# Altium schematic symbol library RAMBo.SCHLIB: 58 symbols
Pins are listed as number, name and electrical type; pins without a type are passive.

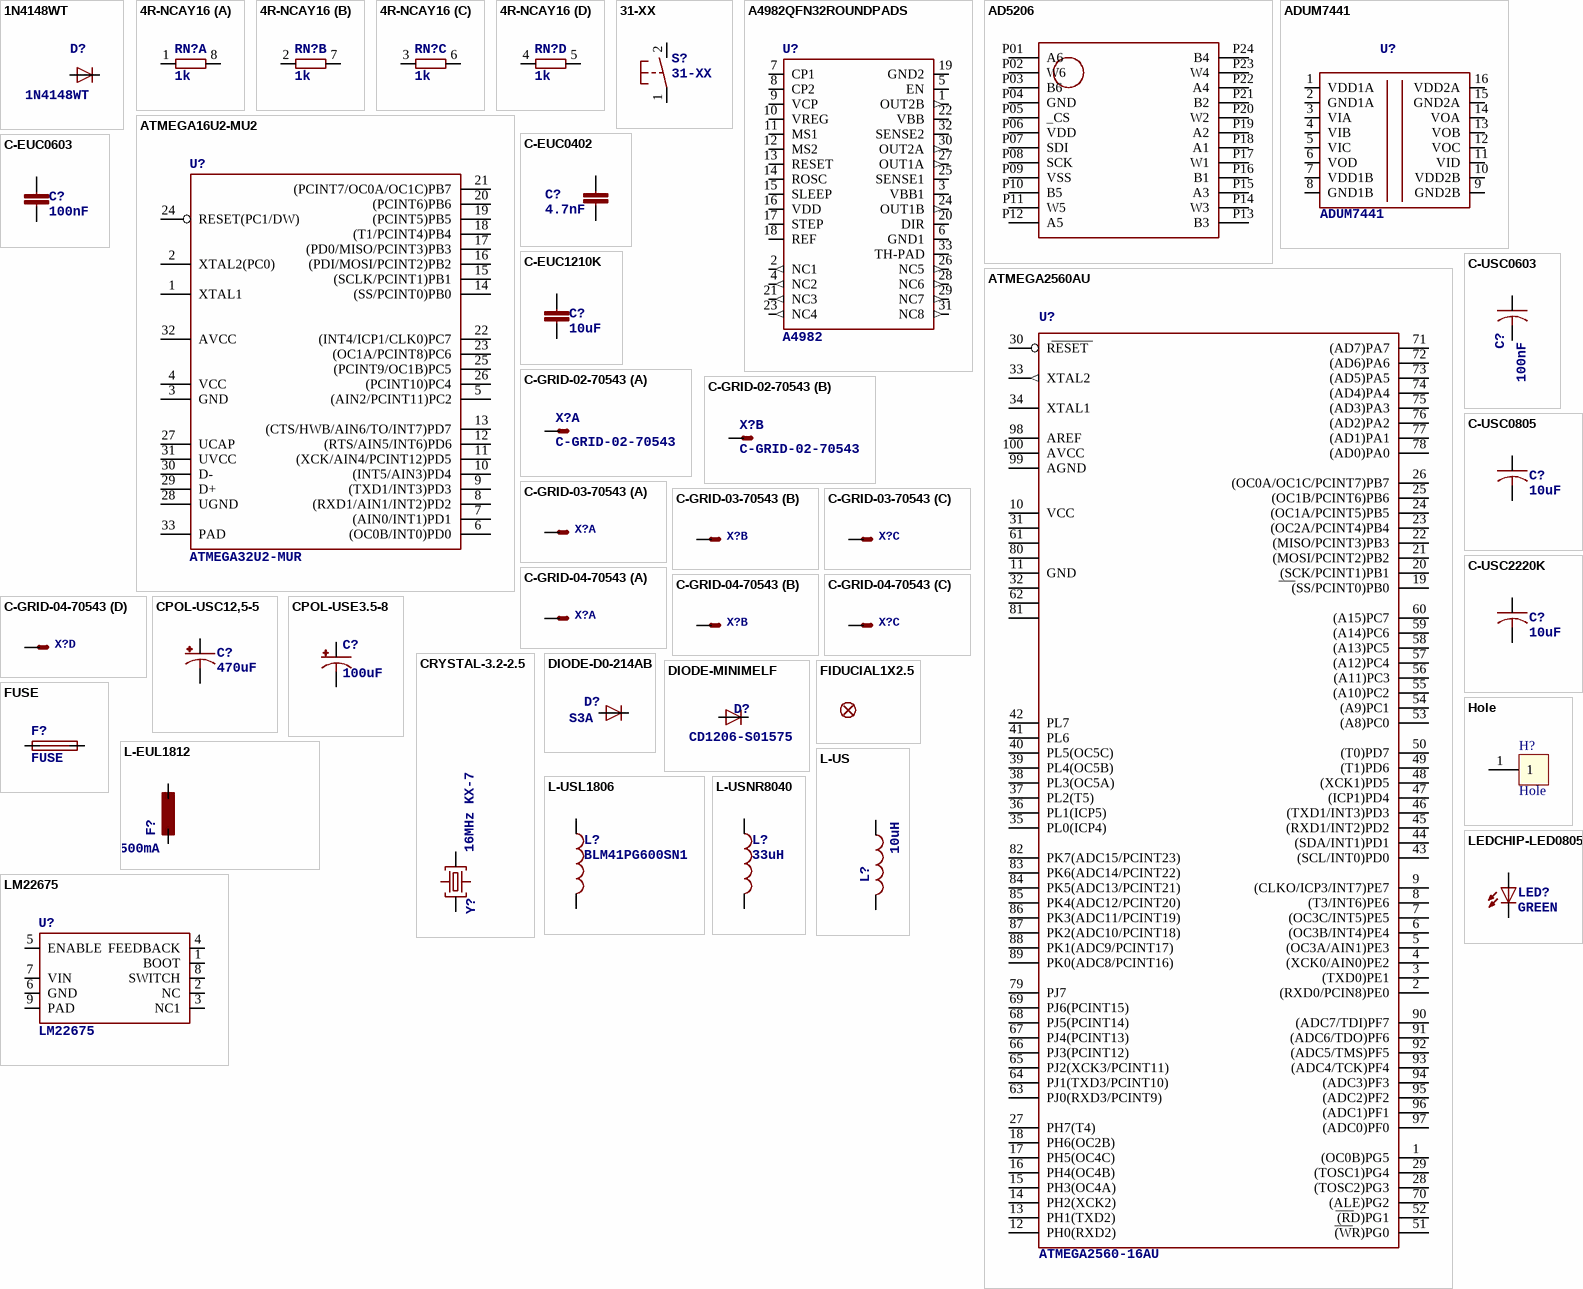
[diagram p0: symbols 1N4148WT to LM22675]

## 1N4148WT
designator D?
DIODE   high speed (Philips)
footprint SOD523
pins: A, C

## 4R-NCAY16
designator RN?, comment 1k
Array Chip Resistor   Source: RS Component / Phycomp; OC_FARNELL: unknown; OC_NEWARK: unknown
footprint CAY16
part A pins: 1, 8 2
part B pins: 2 1, 7 2
part C pins: 3 1, 6 2
part D pins: 4 1, 5 2

## 31-XX
designator S?
OMRON SWITCHNow with beefier pads!
footprint B3F-31XX
pins: 1 P, 2 S

## A4982QFN32ROUNDPADS
designator U?, comment A4982
footprint QFN32TROUND
pins: 1 OUT2B (out), 2 NC1 (out), 3 VBB1 (power), 4 NC2 (out), 5 EN, 6 GND1 (power), 7 CP1, 8 CP2, 9 VCP, 10 VREG, 11 MS1, 12 MS2, 13 RESET, 14 ROSC, 15 SLEEP, 16 VDD (power), 17 STEP, 18 REF, 19 GND2 (power), 20 DIR, 21 NC3 (out), 22 VBB (power), 23 NC4 (out), 24 OUT1B (out), 25 SENSE1, 26 NC5 (out), 27 OUT1A (out), 28 NC6 (out), 29 NC7 (out), 30 OUT2A (out), 31 NC8 (out), 32 SENSE2, 33 TH-PAD (power)

## AD5206
designator U?  (value not drawn)
footprint TSSOP24
pins: P01 A6, P02 W6, P03 B6, P04 GND, P05 _CS, P06 VDD, P07 SDI, P08 SCK, P09 VSS, P10 B5, P11 W5, P12 A5, P13 B3, P14 W3, P15 A3, P16 B1, P17 W1, P18 A1, P19 A2, P20 W2, P21 B2, P22 A4, P23 W4, P24 B4

## ADUM7441
designator U?
footprint QSOP16
pins: 1 VDD1A, 2 GND1A, 3 VIA, 4 VIB, 5 VIC, 6 VOD, 7 VDD1B, 8 GND1B, 9 GND2B, 10 VDD2B, 11 VID, 12 VOC, 13 VOB, 14 VOA, 15 GND2A, 16 VDD2A

## ATMEGA16U2-MU2
designator U?, comment ATMEGA32U2-MUR
footprint QFN32TROUND
pins: 1 XTAL1, 2 XTAL2(PC0), 3 GND (power), 4 VCC (power), 5 (AIN2/PCINT11)PC2, 6 (OC0B/INT0)PD0, 7 (AIN0/INT1)PD1, 8 (RXD1/AIN1/INT2)PD2, 9 (TXD1/INT3)PD3, 10 (INT5/AIN3)PD4, 11 (XCK/AIN4/PCINT12)PD5, 12 (RTS/AIN5/INT6)PD6, 13 (CTS/HWB/AIN6/TO/INT7)PD7, 14 (SS/PCINT0)PB0, 15 (SCLK/PCINT1)PB1, 16 (PDI/MOSI/PCINT2)PB2, 17 (PD0/MISO/PCINT3)PB3, 18 (T1/PCINT4)PB4, 19 (PCINT5)PB5, 20 (PCINT6)PB6, 21 (PCINT7/OC0A/OC1C)PB7, 22 (INT4/ICP1/CLK0)PC7, 23 (OC1A/PCINT8)PC6, 24 RESET(PC1/DW), 25 (PCINT9/OC1B)PC5, 26 (PCINT10)PC4, 27 UCAP, 28 UGND (power), 29 D+, 30 D-, 31 UVCC (power), 32 AVCC (power), 33 PAD (power)

## ATMEGA2560AU
designator U?, comment ATMEGA2560-16AU
MICROCONTROLLER   64/128/256 Kbytes FLASH   4 Kbytes EEPROM   8 Kbytes SRAM   86 General Purpose I/O pins   12-channels16-bit PWM   4 x Serial USARTs   16-channels 10-bit A/D
footprint TQFP100
pins: 1 (OC0B)PG5, 2 (RXD0/PCIN8)PE0, 3 (TXD0)PE1, 4 (XCK0/AIN0)PE2, 5 (OC3A/AIN1)PE3, 6 (OC3B/INT4)PE4, 7 (OC3C/INT5)PE5, 8 (T3/INT6)PE6, 9 (CLKO/ICP3/INT7)PE7, 10 VCC (power), 11 GND (power), 12 PH0(RXD2), 13 PH1(TXD2), 14 PH2(XCK2), 15 PH3(OC4A), 16 PH4(OC4B), 17 PH5(OC4C), 18 PH6(OC2B), 19 (SS/PCINT0)PB0, 20 (SCK/PCINT1)PB1, 21 (MOSI/PCINT2)PB2, 22 (MISO/PCINT3)PB3, 23 (OC2A/PCINT4)PB4, 24 (OC1A/PCINT5)PB5, 25 (OC1B/PCINT6)PB6, 26 (OC0A/OC1C/PCINT7)PB7, 27 PH7(T4), 28 (TOSC2)PG3, 29 (TOSC1)PG4, 30 RESET, 31 VCC1 (power), 32 GND1 (power), 33 XTAL2 (out), 34 XTAL1, 35 PL0(ICP4), 36 PL1(ICP5), 37 PL2(T5), 38 PL3(OC5A), 39 PL4(OC5B), 40 PL5(OC5C), 41 PL6, 42 PL7, 43 (SCL/INT0)PD0, 44 (SDA/INT1)PD1, 45 (RXD1/INT2)PD2, 46 (TXD1/INT3)PD3, 47 (ICP1)PD4, 48 (XCK1)PD5, 49 (T1)PD6, 50 (T0)PD7, 51 (WR)PG0, 52 (RD)PG1, 53 (A8)PC0, 54 (A9)PC1, 55 (A10)PC2, 56 (A11)PC3, 57 (A12)PC4, 58 (A13)PC5, 59 (A14)PC6, 60 (A15)PC7, 61 VCC2 (power), 62 GND2 (power), 63 PJ0(RXD3/PCINT9), 64 PJ1(TXD3/PCINT10), 65 PJ2(XCK3/PCINT11), 66 PJ3(PCINT12), 67 PJ4(PCINT13), 68 PJ5(PCINT14), 69 PJ6(PCINT15), 70 (ALE)PG2, 71 (AD7)PA7, 72 (AD6)PA6, 73 (AD5)PA5, 74 (AD4)PA4, 75 (AD3)PA3, 76 (AD2)PA2, 77 (AD1)PA1, 78 (AD0)PA0, 79 PJ7, 80 VCC3 (power), 81 GND3 (power), 82 PK7(ADC15/PCINT23), 83 PK6(ADC14/PCINT22), 84 PK5(ADC13/PCINT21), 85 PK4(ADC12/PCINT20), 86 PK3(ADC11/PCINT19), 87 PK2(ADC10/PCINT18), 88 PK1(ADC9/PCINT17), 89 PK0(ADC8/PCINT16), 90 (ADC7/TDI)PF7, 91 (ADC6/TDO)PF6, 92 (ADC5/TMS)PF5, 93 (ADC4/TCK)PF4, 94 (ADC3)PF3, 95 (ADC2)PF2, 96 (ADC1)PF1, 97 (ADC0)PF0, 98 AREF, 99 AGND (power), 100 AVCC (power)

## C-EUC0402
designator C?, comment 4.7nF
CAPACITOR, European symbol
footprint C0402
pins: 1, 2

## C-EUC0603
designator C?, comment 100nF
CAPACITOR, European symbol
footprint C0603
pins: 1, 2

## C-EUC1210K
designator C?, comment 10uF
CAPACITOR, European symbol
footprint C1210K
pins: 1, 2

## C-GRID-02-70543
designator X?
CONNECTOR   wire to board 2.54 mm (0.100") pitch header; OC_FARNELL: unknown; OC_NEWARK: unknown
footprint 70543-02
part A pins: 2 S
part B pins: 1 S

## C-GRID-03-70543
designator X?  (value not drawn)
CONNECTOR   wire to board 2.54 mm (0.100") pitch header; OC_FARNELL: unknown; OC_NEWARK: unknown
footprint 70543-03
part A pins: 1 S
part B pins: 2 S
part C pins: 3 S

## C-GRID-04-70543
designator X?  (value not drawn)
CONNECTOR   wire to board 2.54 mm (0.100") pitch header; OC_FARNELL: unknown; OC_NEWARK: unknown
footprint 70543-04
part A pins: 1 S
part B pins: 2 S
part C pins: 3 S
part D pins: 4 S

## C-USC0603
designator C?, comment 100nF
CAPACITOR, American symbol
footprint C0603
pins: 1, 2

## C-USC0805
designator C?, comment 10uF
CAPACITOR, American symbol
footprint C0805
pins: 1, 2

## C-USC2220K
designator C?, comment 10uF
CAPACITOR, American symbol
footprint C2220K
pins: 1, 2

## CPOL-USC12,5-5
designator C?, comment 470uF
POLARIZED CAPACITOR, American symbol
footprint C12,5-5
pins: +, -

## CPOL-USE3.5-8
designator C?, comment 100uF
POLARIZED CAPACITOR, American symbol
footprint E3,5-8
pins: +, -

## CRYSTAL-3.2-2.5
designator Y?, comment 16MHz KX-7
footprint CRYSTAL-3.2-2.5
pins: 1 C1, 2 GND, 3 C2, 4 GND

## DIODE-D0-214AB
designator D?, comment S3A
DIODE
footprint DO-214AB
pins: A, C

## DIODE-MINIMELF
designator D?, comment CD1206-S01575
DIODE
footprint MINIMELF
pins: A, C

## FIDUCIAL1X2.5
designator FID?  (value not drawn)
Fiducial Alignment PointsVarious fiducial points for machine vision alignment.
footprint FIDUCIAL-1X2.5

## FUSE
designator F?
footprint FUSE-ATO-SMD
pins: P$1 1, P$2 2

## Hole
designator H?  (no BOM)
footprint Wave_hole_3x7-singleSided
pins: 1 (power)

## L-EUL1812
designator F?, comment MF-MSMF050-2 500mA
INDUCTOR, European symbol
footprint L1812
pins: 1, 2

## L-US
designator L?, comment 10uH
INDUCTOR, American symbol
footprint C0805
pins: 1, 2

## L-USL1806
designator L?, comment BLM41PG600SN1
INDUCTOR, American symbol
footprint L1806
pins: P$1 1, P$2 2

## L-USNR8040
designator L?, comment 33uH
INDUCTOR, American symbol
footprint NR8040
pins: P$1 1, P$2 2

## LEDCHIP-LED0805
designator LED?, comment GREEN
LED   OSRAM: - CHIPLED LG R971, LG N971, LY N971, LG Q971, LY Q971, LO R971, LY R971 LH N974, LH R974 LS Q976, LO Q976, LY Q976 LO Q996 - Hyper CHIPLED LW Q18S LB Q993, LB Q99A, LB R99A - SideLED LS A670, LO A670, LY A670, LG A670, LP A670 LB A673, LV A673, LT A673, LW A673 LH A674 LY A675 LS A676, LA A676, LO A676, LY A676, LW A676 LS A679, LY A679, LG A679 -  Hyper Micro SIDELED® LS Y876, LA Y876, LO Y876, LY Y876 LT Y87S - SmartLED LW L88C, LW L88S LB L89C, LB L89S, LG L890 LS L89K, LO L89K, LY L89K LS L896, LA L896, LO L896, LY L896 - TOPLED LS T670, LO T670, LY T670, LG T670, LP T670 LSG T670, LSP T670, LSY T670, LOP T670, LYG T670 LG T671, LOG T671, LSG T671 LB T673, LV T673, LT T673, LW T673 LH T674 LS T676, LA T676, LO T676, LY T676, LB T676, LH T676, LSB T676, LW T676 LB T67C, LV T67C, LT T67C, LS T67K, LO T67K, LY T67K, LW E67C LS E67B, LA E67B, LO E67B, LY E67B, LB E67C, LV E67C, LT E67C LW T67C LS T679, LY T679, LG T679 LS T770, LO T770, LY T770, LG T770, LP T770 LB T773, LV T773, LT T773, LW T773 LH T774 LS E675, LA E675, LY E675, LS T675 LS T776, LA T776, LO T776, LY T776, LB T776 LHGB T686 LT T68C, LB T68C - Hyper Mini TOPLED® LB M676 - Mini TOPLED Santana® LG M470 LS M47K, LO M47K, LY M47K    Source: http://www.osram.convergy.de   LUXEON: - LUMILED® LXK2-PW12-R00, LXK2-PW12-S00, LXK2-PW14-U00, LXK2-PW14-V00 LXK2-PM12-R00, LXK2-PM12-S00, LXK2-PM14-U00 LXK2-PE12-Q00, LXK2-PE12-R00, LXK2-PE12-S00, LXK2-PE14-T00, LXK2-PE14-U00 LXK2-PB12-K00, LXK2-PB12-L00, LXK2-PB12-M00, LXK2-PB14-N00, LXK2-PB14-P00, LXK2-PB14-Q00 LXK2-PR12-L00, LXK2-PR12-M00, LXK2-PR14-Q00, LXK2-PR14-R00 LXK2-PD12-Q00, LXK2-PD12-R00, LXK2-PD12-S00 LXK2-PH12-R00, LXK2-PH12-S00 LXK2-PL12-P00, LXK2-PL12-Q00, LXK2-PL12-R00    Source: www.luxeon.com   KINGBRIGHT:   KA-3528ASYC Source: www.kingbright.com
footprint CHIP-LED0805
pins: A, C

## LM22675
designator U?
footprint SOIC127P600X170-9N
pins: 1 BOOT, 2 NC, 3 NC1, 4 FEEDBACK, 5 ENABLE, 6 GND, 7 VIN (power), 8 SWITCH, 9 PAD

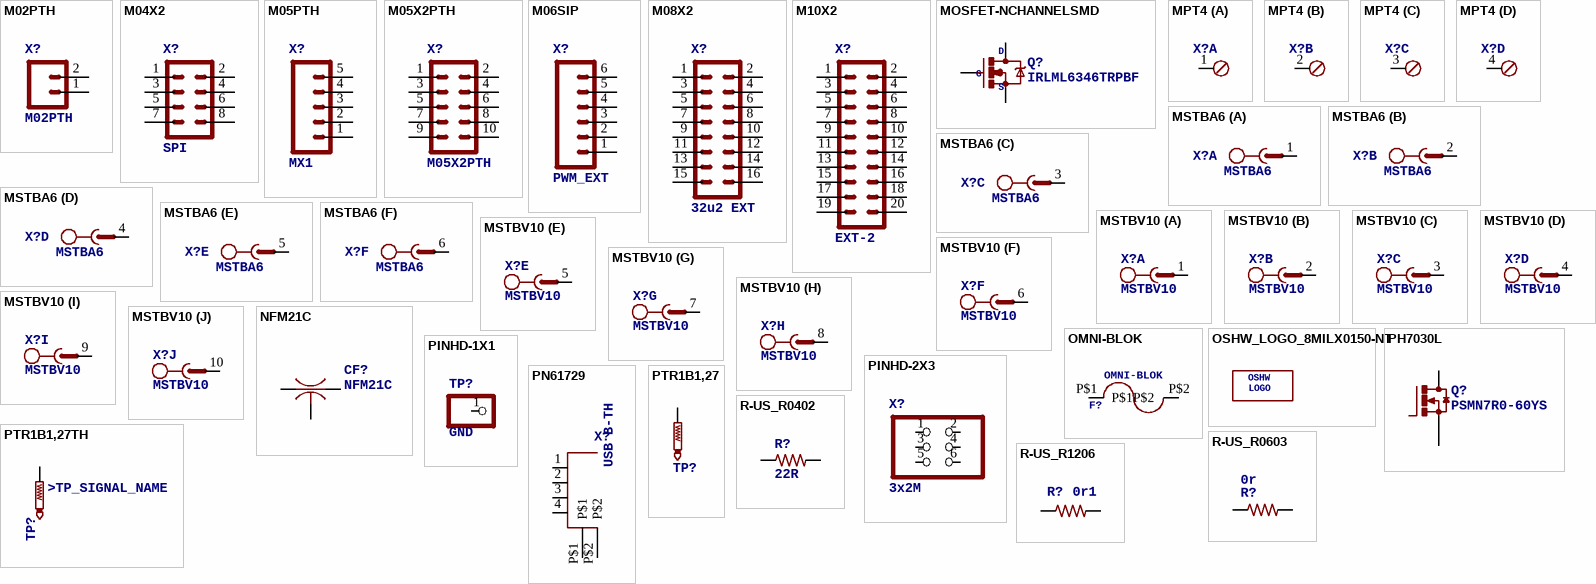
[diagram p1: symbols M02PTH to R-US_R1206]

## M02PTH
designator X?
Header 2Standard 2-pin 0.1" header. Use with straight break away headers (SKU : PRT-00116), right angle break away headers (PRT-00553), swiss pins (PRT-00743), machine pins (PRT-00117), and female headers (PRT-00115). Molex polarized connector foot print use with SKU : PRT-08233 with associated crimp pins and housings.
footprint 1X02
pins: 1, 2

## M04X2
designator X?, comment SPI
footprint 2X4
pins: 1, 2, 3, 4, 5, 6, 7, 8

## M05PTH
designator X?, comment MX1
Header 5Standard 5-pin 0.1" header. Use with straight break away headers (SKU : PRT-00116), right angle break away headers (PRT-00553), swiss pins (PRT-00743), machine pins (PRT-00117), and female headers (PRT-00115). Molex polarized connector foot print use with SKU : PRT-08230 with associated crimp pins and housings.
footprint 1X05
pins: 1, 2, 3, 4, 5

## M05X2PTH
designator X?
Header 5x2Standard 10-pin dual row 0.1" header. Commonly used with AVR-ISP. Use with Spark Fun Electronics SKU: PRT-00778
footprint AVR_ICSP
pins: 1, 2, 3, 4, 5, 6, 7, 8, 9, 10

## M06SIP
designator X?, comment PWM_EXT
Header 6Standard 6-pin 0.1" header. Use with straight break away headers (SKU : PRT-00116), right angle break away headers (PRT-00553), swiss pins (PRT-00743), machine pins (PRT-00117), and female headers (PRT-00115). Molex polarized connector foot print use with SKU : PRT-08094 with associated crimp pins and housings. NOTES ON THE VARIANTS LOCK and LOCK_LONGPADS... This footprint was designed to help hold the alignment of a through-hole component (i.e.  6-pin header) while soldering it into place. You may notice that each hole has been shifted either up or down by 0.005 of an inch from it's more standard position (which is a perfectly straight line). This slight alteration caused the pins (the squares in the middle) to touch the edges of the holes.  Because they are alternating, it causes a "brace" to hold the component in place.  0.005 has proven to be the perfect amount of "off-center" position when using our standard breakaway headers. Although looks a little odd when you look at the bare footprint, once you have a header in there, the alteration is very hard to notice.  Also, if you push a header all the way into place, it is covered up entirely on the bottom side.  This idea of altering the position of holes to aid alignment will be further integrated into the Sparkfun Library for other footprints.  It can help hold any component with 3 or more connection pins.
footprint 1X06
pins: 1, 2, 3, 4, 5, 6

## M08X2
designator X?, comment 32u2 EXT
footprint 2X8
pins: 1, 2, 3, 4, 5, 6, 7, 8, 9, 10, 11, 12, 13, 14, 15, 16

## M10X2
designator X?, comment EXT-2
This was SPECIALLY designed to be used with our Graphic LCD Backpack.  Be sure you want to use this!  It is not only staggered on each line of header holes, but IT IS ALSO offset of the center point of the top and bottom lines by 5 mil.  This causes the headers to lock into place on the "standard" footprint on the LCD screen.  The extra squares on the tdocu layer are there simply to reference other pins (if you were to actually populate a longer header than ten long - this is what we do with the backpacks).
footprint 2X10
pins: 1, 2, 3, 4, 5, 6, 7, 8, 9, 10, 11, 12, 13, 14, 15, 16, 17, 18, 19, 20

## MOSFET-NCHANNELSMD
designator Q?, comment IRLML6346TRPBF
D: D; S: S; G: G
footprint SOT23-3
pins: 1 G, 2 S, 3 D

## MPT4
designator X?, comment C-GRID-04-70543  (value not drawn)
PHOENIX CONNECTOR; OC_FARNELL: unknown; OC_NEWARK: unknown
footprint 4POL254
part A pins: 1
part B pins: 2 1
part C pins: 3 1
part D pins: 4 1

## MSTBA6
designator X?
PHOENIX; MPN: 1757284; MF: FARNELL; OC_FARNELL: 3705213; OC_NEWARK: 71C4165
footprint MSTBA6
part A pins: 1
part B pins: 2 1
part C pins: 3 1
part D pins: 4 1
part E pins: 5 1
part F pins: 6 1

## MSTBV10
designator X?
PHOENIX; MPN: MSTBV 2,5/10-GF-5.08; OC_FARNELL: 1792798; OC_NEWARK: 69R9844
footprint MSTBV10
part A pins: 1
part B pins: 2 1
part C pins: 3 1
part D pins: 4 1
part E pins: 5 1
part F pins: 6 1
part G pins: 7 1
part H pins: 8 1
part I pins: 9 1
part J pins: 10 1

## NFM21C
designator CF?
EMIFIL(R) (Capacitor type) Single Circuit Type for Signal Lines   Source: http://search.murata.co.jp/Ceramy/image/img/PDF/ENG/L0111S0109NFM3DC.pdf; MPN: NFM21CC102R1H3D; OC_FARNELL: 1828795; OC_NEWARK: 84R0165
footprint NFM21C
pins: 1, 2@1 2, 2@2 2, 3

## OMNI-BLOK
designator F?
footprint OMNI-BLOK
pins: P$1, P$2

## OSHW_LOGO_8MILX0150-NT
designator LOGO?  (value not drawn)
OSHW: OSHW; LOGO: LOGO
footprint OSHW_8X150_NOTEXT

## PH7030L
designator Q?, comment PSMN7R0-60YS
N-channel TrenchMOS (TM) logic level FET   Source: http://www.nxp.com/acrobat_download/datasheets/PH7030L_4.pdf
footprint SOT669
pins: 1 S, 2 S, 3 S, 4 G, MB D

## PINHD-1X1
designator TP?, comment GND
Pin header 1x1 for 0.1" spacing   With round pins
footprint 1X01
pins: 1

## PINHD-2X3
designator X?, comment 3x2M
PIN HEADER
footprint 2X03
pins: 1, 2, 3, 4, 5, 6

## PN61729
designator X?, comment USB B-TH
BERG USB connector
footprint PN61729
pins: 1, 2, 3, 4, P$1, P$2

## PTR1B1,27
designator TP?  (value not drawn)
TEST PIN
footprint B1,27
pins: TP

## PTR1B1,27TH
designator TP?  TP_SIGNAL_NAME: >TP_SIGNAL_NAME  (hidden comment: PTR1B1,27TH)
TEST PIN
footprint B1,27TH
pins: TP

## R-US_R0402
designator R?, comment 22R
RESISTOR, American symbol
footprint R0402
pins: 1, 2

## R-US_R0603
designator R?, comment 0r
RESISTOR, American symbol
footprint R0603
pins: 1, 2

## R-US_R1206
designator R?, comment 0r1
RESISTOR, American symbol
footprint R1206
pins: 1, 2

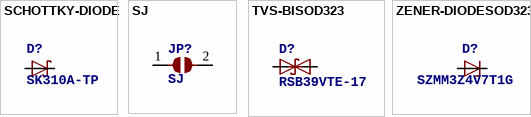
[diagram p2: symbols SCHOTTKY-DIODE to ZENER-DIODESOD323]

## SCHOTTKY-DIODE
designator D?, comment SK310A-TP
Schottky Diode
footprint SMA-SM
pins: A, C

## SJ
designator JP?
SMD solder JUMPER
footprint SJ
pins: 1, 2

## TVS-BISOD323
designator D?, comment RSB39VTE-17
DIODE   uni and bidirectional supressor diode
footprint SOD323-R
pins: A 1, C 2

## ZENER-DIODESOD323
designator D?, comment SZMM3Z4V7T1G
Z-Diode
footprint SOD323-R
pins: A, C